# EAGLE library part 61203421721 (library Wuerth_Elektronik_eiCan_Box_Header_&_IDC_Connectors_v1.2)
WR-BHD 2.54mm Male Angled Box Header, 34 Pins
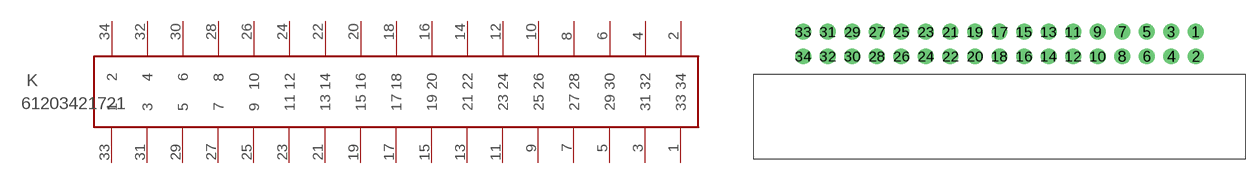
[diagram p97: symbol with the pads of 61203421721; footprint 61203421721]

Designator prefix K

## 61203421721  [61203421721]
1  33  pas
2  34  pas
3  31  pas
4  32  pas
5  29  pas
6  30  pas
7  27  pas
8  28  pas
9  25  pas
10  26  pas
11  23  pas
12  24  pas
13  21  pas
14  22  pas
15  19  pas
16  20  pas
17  17  pas
18  18  pas
19  15  pas
20  16  pas
21  13  pas
22  14  pas
23  11  pas
24  12  pas
25  9  pas
26  10  pas
27  7  pas
28  8  pas
29  5  pas
30  6  pas
31  3  pas
32  4  pas
33  1  pas
34  2  pas

## Footprint 61203421721 (pad centres in mm)
WR-BHD 2.54mm Male Angled Box Header, 34 Pins
drill 1.1 round: 1 2.54,1.27; 2 2.54,-1.27; 3 0,1.27; 4 0,-1.27; 5 -2.54,1.27; 6 -2.54,-1.27; 7 -5.08,1.27; 8 -5.08,-1.27; 9 -7.62,1.27; 10 -7.62,-1.27; 11 -10.16,1.27; 12 -10.16,-1.27; 13 -12.7,1.27; 14 -12.7,-1.27; 15 -15.24,1.27; 16 -15.24,-1.27; 17 -17.78,1.27; 18 -17.78,-1.27; 19 -20.32,1.27; 20 -20.32,-1.27; 21 -22.86,1.27; 22 -22.86,-1.27; 23 -25.4,1.27; 24 -25.4,-1.27; 25 -27.94,1.27; 26 -27.94,-1.27; 27 -30.48,1.27; 28 -30.48,-1.27; 29 -33.02,1.27; 30 -33.02,-1.27; 31 -35.56,1.27; 32 -35.56,-1.27; 33 -38.1,1.27; 34 -38.1,-1.27